# Altium footprint library Resistors.PcbLib: 35 footprints (part 2 of 3)
Each footprint in its own frame and in the unit in brackets; x right, y up, seen from the top. Pads: shape width x height; smd on the part's side, far side on the other; paste and mask are expansions set on the pad; w line width, h text height; cw(c..) or ccw(c..) is an arc to the next point about the centre after c.
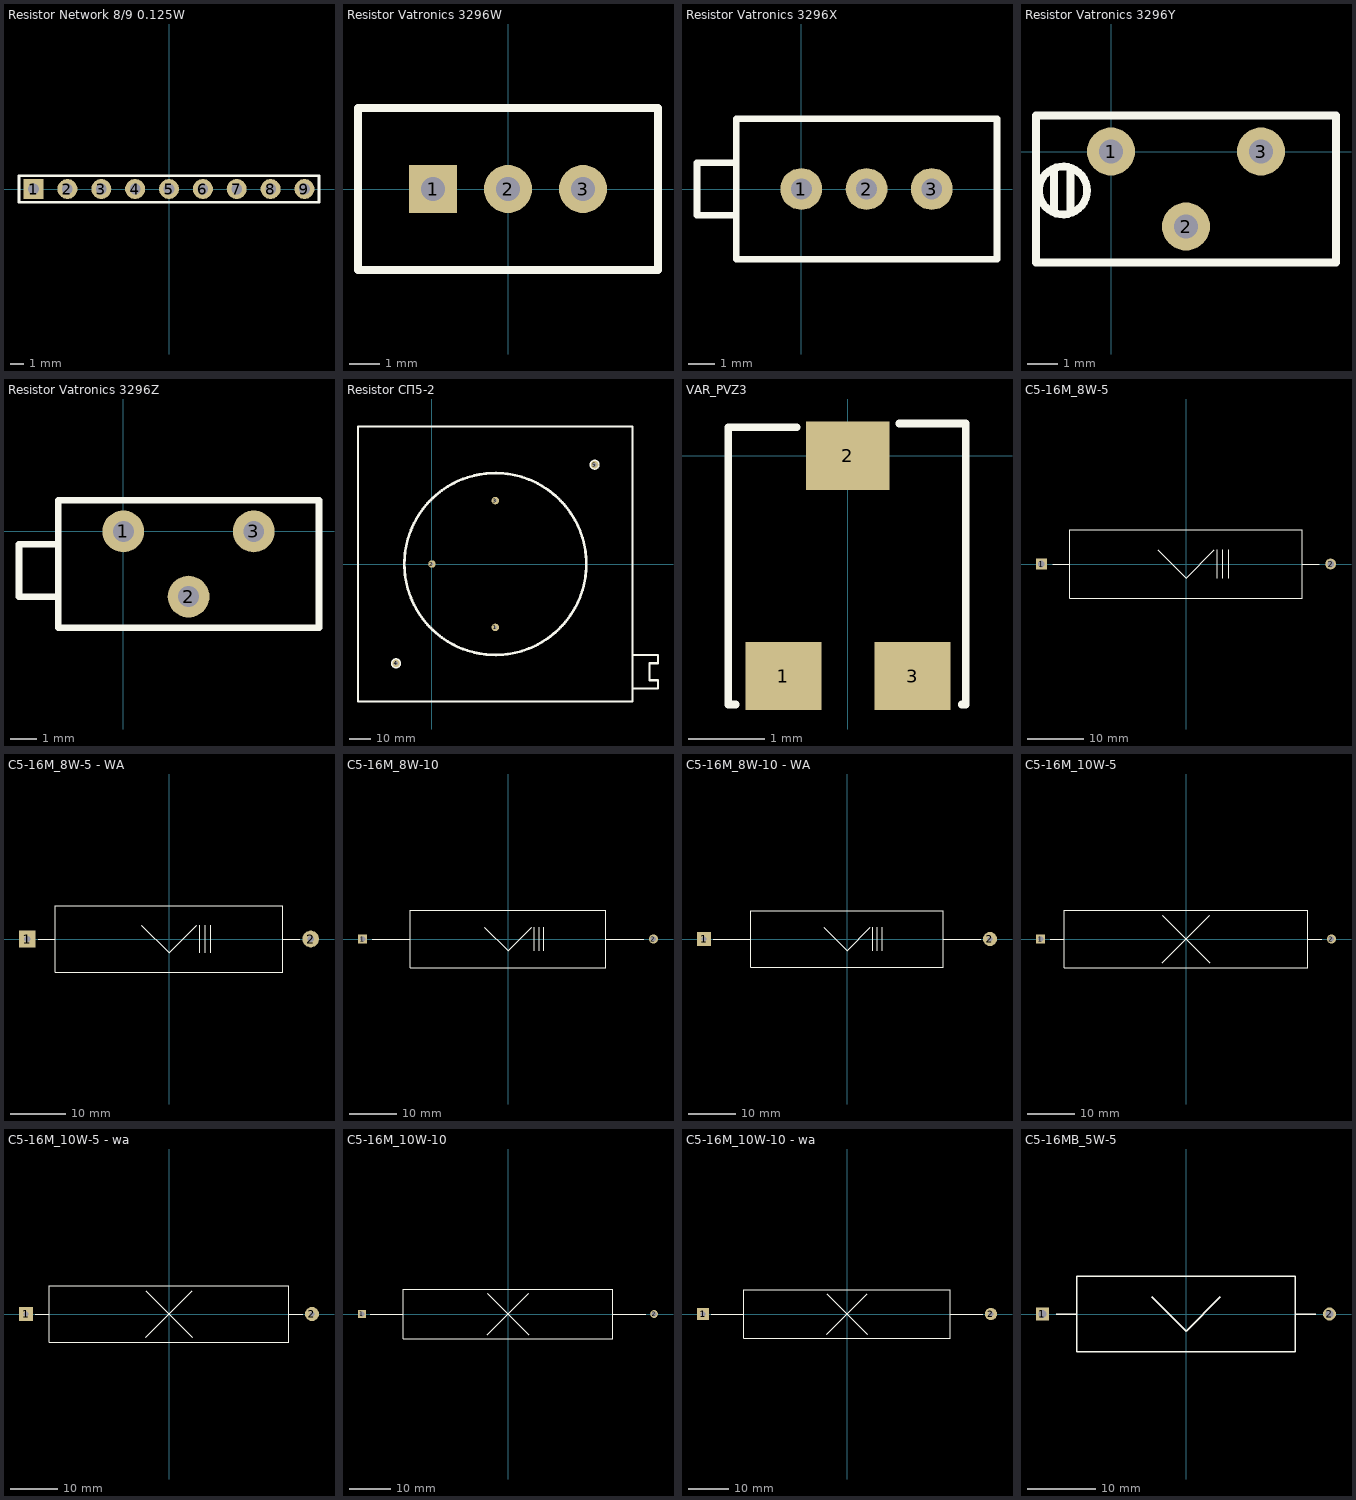
[diagram p1: the footprints below, top view; thin cyan lines are the x and y axes]

## Resistor Network 8/9 0.125W [mm]
height 5
pads (9):
  rect 1.5x1.5 hole 0.8: 1(-10.16,0)
  round 1.5 hole 0.8: 2(-7.62,0) 3(-5.08,0) 4(-2.54,0) 5(0,0) 6(2.54,0) 7(5.08,0) 8(7.62,0) 9(10.16,0)
Top Overlay:
  lines w0.2: -11.25,-1 -11.25,1 11.25,1 11.25,-1 -11.25,-1
3D body "Resistor_Networks_8-9.STEP": height 5.3, standoff -3.2, extent -11.225,-0.625 11.275,0.625

## Resistor Vatronics 3296W [mm]
pads (3):
  rect 1.6x1.6 hole 0.8: 1(-2.5,0)
  round 1.6 hole 0.8: 2(0,0) 3(2.5,0)
Top Overlay:
  lines w0.254: -5,-2.7 -5,2.7 5,2.7 5,-2.7 -5,-2.7
3D body "3296w.STEP": height 11.5, standoff -4.1, extent -4.75,-2.5 4.75,2.35

## Resistor Vatronics 3296X [mm]
pads (3):
  round 1.6 hole 0.8: 1(0,0) 2(2.5,0) 3(5,0)
Top Overlay:
  lines w0.254: -4,-1 -4,1 ; -4,-1 -4,1 ; -4,-1 -2.5,-1 -4,-1 ; -4,-1 -4,1 ; -4,1 -2.5,1 -4,1 ; -2.5,-2.7 -2.5,2.7 7.5,2.7 7.5,-2.7 -2.5,-2.7

## Resistor Vatronics 3296Y [mm]
pads (3):
  round 1.6 hole 0.8: 1(0,0) 2(2.5,-2.5) 3(5,0)
Top Overlay:
  circle w0.254: c-1.6,-1.3 r0.8
  lines w0.254: -2.5,-2.5 -2.5,1 ; -1.9,-2 -1.9,-0.6 ; -1.35,-2 -1.35,-0.55 ; 7.5,-2.5 7.5,1.2 -2.5,1.2 -2.5,-3.7 7.5,-3.7 7.5,1

## Resistor Vatronics 3296Z [mm]
pads (3):
  round 1.6 hole 0.8: 1(0,0) 2(2.5,-2.5) 3(5,0)
Top Overlay:
  lines w0.254: -2.5,1 -2.5,-2.5 ; 7.5,-2.5 7.5,1 ; -4,-2.5 -2.5,-2.5 ; -4,-2.5 -4,-0.5 ; -4,-2.5 -2.5,-2.5 ; -4,-2.5 -4,-0.5 ; -4,-2.5 -4,-0.5 ; -4,-0.5 -2.5,-0.5 -4,-0.5 ; -2.5,-3.7 7.5,-3.7 7.5,1.2 -2.5,1.2 -2.5,-3.7

## Resistor СП5-2 [mm]
pads (5):
  round 3.524 hole 1.3: 1(30,-30) 2(0,0) 3(30,30)
  round 3.524 hole 1.8: 4(-17,-47) 5(77,47)
Top Overlay:
  circle w1.254: c30,0 r43.046
  circle w1: c77,47 r1.9
  circle w1: c-17,-47 r1.9
  lines w1: -35,-65 -35,65 94.9,65 ; -35,-64.8 -34.8,-65 95,-65 95,65 ; 95,-59 107,-59 107,-55 103,-55 103,-47 107,-47 107,-43 95,-43

## VAR_PVZ3 [mm]
pads (3):
  rect 1x0.9 smd: 1(-0.85,-2.9) 3(0.85,-2.9)
  rect 1.1x0.9 smd: 2(0,0)
Top Overlay:
  lines w0.1: -1.475,-3.275 -1.575,-3.275 -1.575,0.125 -1.575,0.375 -1.525,0.375 -0.675,0.375 ; 0.675,0.425 1.55,0.425 1.55,0.125 1.55,-3.275 1.5,-3.275

## С5-16М_8W-5 [mm] "Резистор - 8 Вт  постоянный, проволочный прецизионный. D=12mm,  L=41mm, l=20mm - вывод"
height 12
pads (2):
  rect 1.9x1.9 hole 1.15: 1(-25.5,0)
  round 1.9 hole 1.15: 2(25.5,0)
Top Overlay:
  lines w0.2: -23.5,0 -20.5,0 ; -5,2.5 0,-2.5 5,2.5 ; 5.5,-2.5 5.5,2.5 ; 6.5,-2.5 6.5,2.5 ; 7.5,-2.5 7.5,2.5 ; 20.5,0 23.5,0 ; -20.5,-6 20.5,-6 20.5,6 -20.5,6 -20.5,-6

## С5-16М_8W-5 - WA [mm] "Резистор - 8 Вт  постоянный, проволочный прецизионный. D=12mm,  L=41mm, l=20mm - вывод"
height 12
pads (2):
  rect 3x3 hole 1.15: 1(-25.5,0)
  round 3 hole 1.15: 2(25.5,0)
Top Overlay:
  lines w0.2: -23.5,0 -20.5,0 ; -5,2.5 0,-2.5 5,2.5 ; 5.5,-2.5 5.5,2.5 ; 6.5,-2.5 6.5,2.5 ; 7.5,-2.5 7.5,2.5 ; 20.5,0 23.5,0 ; -20.5,-6 20.5,-6 20.5,6 -20.5,6 -20.5,-6

## С5-16М_8W-10 [mm] "Резистор - 8 Вт  постоянный, проволочный прецизионный. D=12mm,  L=41mm, l=20mm - вывод"
height 12
pads (2):
  rect 1.9x1.9 hole 1.15: 1(-30.5,0)
  round 1.9 hole 1.15: 2(30.5,0)
Top Overlay:
  lines w0.2: -28.5,0 -20.5,0 ; -5,2.5 0,-2.5 5,2.5 ; 5.5,-2.5 5.5,2.5 ; 6.5,-2.5 6.5,2.5 ; 7.5,-2.5 7.5,2.5 ; 20.5,0 28.5,0 ; -20.5,-6 20.5,-6 20.5,6 -20.5,6 -20.5,-6

## С5-16М_8W-10 - WA [mm] "Резистор - 8 Вт  постоянный, проволочный прецизионный. D=12mm,  L=41mm, l=20mm - вывод"
height 12
pads (2):
  rect 3x3 hole 1.15: 1(-30.5,0)
  round 3 hole 1.15: 2(30.5,0)
Top Overlay:
  lines w0.2: -28.5,0 -20.5,0 ; -5,2.5 0,-2.5 5,2.5 ; 5.5,-2.5 5.5,2.5 ; 6.5,-2.5 6.5,2.5 ; 7.5,-2.5 7.5,2.5 ; 20.5,0 28.5,0 ; -20.5,-6 -20.5,6 20.5,6 20.5,-6 -20.5,-6

## С5-16М_10W-5 [mm] "Резистор - 10 Вт  постоянный, проволочный прецизионный. D=12mm,  L=51mm, l=20mm - вывод"
height 12
pads (2):
  rect 1.9x1.9 hole 1.15: 1(-30.5,0)
  round 1.9 hole 1.15: 2(30.5,0)
Top Overlay:
  lines w0.2: -28.5,0 -25.5,0 ; -5,-5 5,5 ; -5,5 5,-5 ; 25.5,0 28.5,0 ; -25.5,-6 25.5,-6 25.5,6 -25.5,6 -25.5,-6

## С5-16М_10W-5 - wa [mm] "Резистор - 10 Вт  постоянный, проволочный прецизионный. D=12mm,  L=51mm, l=20mm - вывод"
height 12
pads (2):
  rect 3x3 hole 1.15: 1(-30.5,0)
  round 3 hole 1.15: 2(30.5,0)
Top Overlay:
  lines w0.2: -28.5,0 -25.5,0 ; -5,-5 5,5 ; -5,5 5,-5 ; 25.5,0 28.5,0 ; -25.5,-6 25.5,-6 25.5,6 -25.5,6 -25.5,-6

## С5-16М_10W-10 [mm] "Резистор - 10 Вт  постоянный, проволочный прецизионный. D=12mm,  L=51mm, l=20mm - вывод"
height 12
pads (2):
  rect 1.9x1.9 hole 1.15: 1(-35.5,0)
  round 1.9 hole 1.15: 2(35.5,0)
Top Overlay:
  lines w0.2: -33.5,0 -25.5,0 ; -5,-5 5,5 ; -5,5 5,-5 ; 25.5,0 33.5,0 ; -25.5,-6 -25.5,6 25.5,6 25.5,-6 -25.5,-6

## С5-16М_10W-10 - wa [mm] "Резистор - 10 Вт  постоянный, проволочный прецизионный. D=12mm,  L=51mm, l=20mm - вывод"
height 12
pads (2):
  rect 3x3 hole 1.15: 1(-35.5,0)
  round 3 hole 1.15: 2(35.5,0)
Top Overlay:
  lines w0.2: -33.5,0 -25.5,0 ; -5,-5 5,5 ; -5,5 5,-5 ; 25.5,0 33.5,0 ; -25.5,-6 -25.5,6 25.5,6 25.5,-6 -25.5,-6

## С5-16МВ_5W-5 [mm] "Резистор - 5 Вт  постоянный, проволочный прецизионный. D=11mm,  L=32mm, l=20mm - вывод"
height 11
pads (2):
  rect 1.9x1.9 hole 1.15: 1(-21,0)
  round 1.9 hole 1.15: 2(21,0)
Top Overlay:
  lines w0.2: -19,0 -16,0 ; -5,2.5 0,-2.5 5,2.5 ; 16,0 19,0 ; -16,-5.5 -16,5.5 16,5.5 16,-5.5 -16,-5.5